# Altium integrated library Silicon Labs Clocks and Oscillators.IntLib: 678 symbols (part 37 of 45)
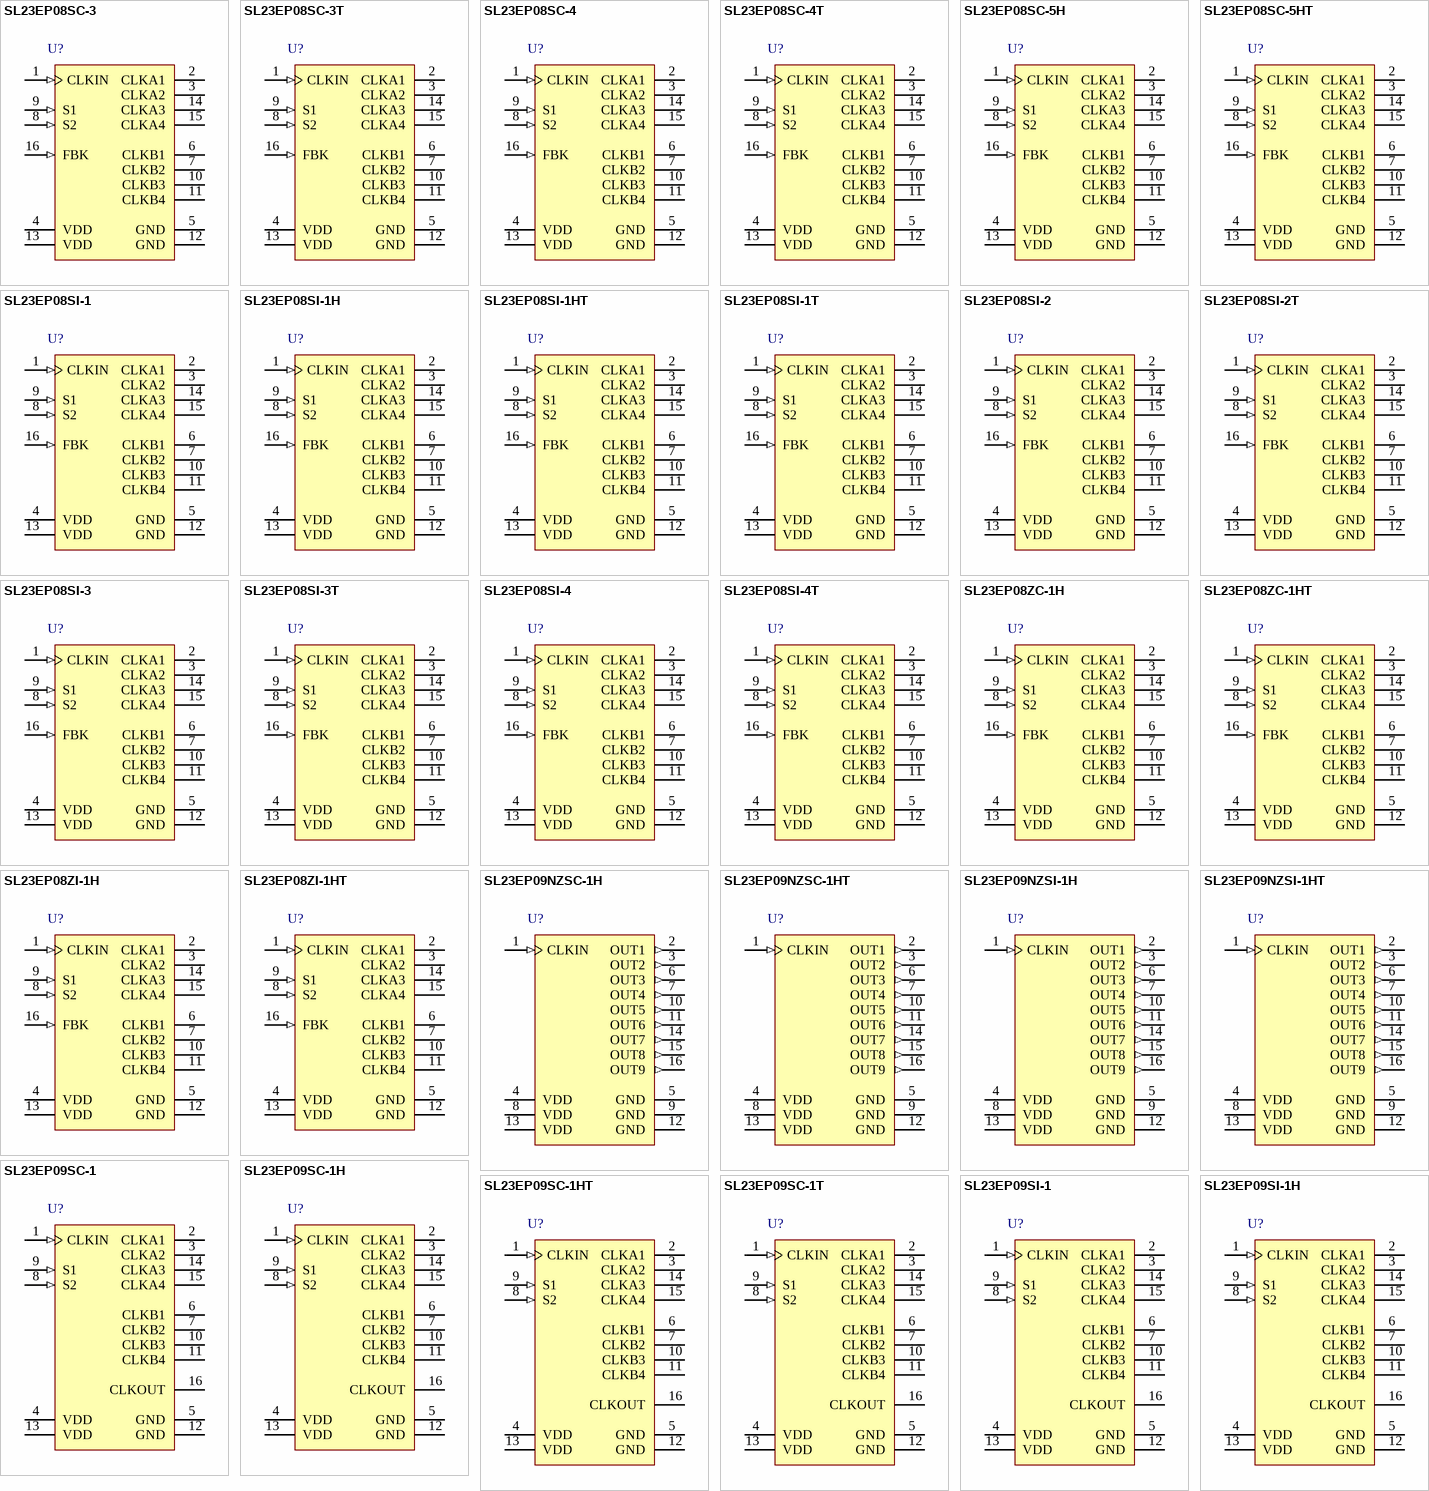
[diagram p80: symbols SL23EP08SC-3 to SL23EP09SI-1H]

## SL23EP08SI-1T
designator U?
Low Jitter and Skew Zero Delay Buffer (ZDB), 10 to 220 MHz, -40 to 85 degC, 16-pin SOIC, Tape and Reel; Manufacturer: Silicon Labs; PartNumber: SL23EP08SI-1T; Output Format: LVCMOS; Sub-Family: Clock Buffers; DatasheetVersion: Rev. 1.0; PackageReference: SOIC-16; PackageDescription: 16-Pin Small-Outline Integrated Circuit, Body 9.9 x 3.9 mm, Pitch 1.27 mm; Supplier 1: Digi-Key; Supplier Part Number 1: SL23EP08SI-1T-ND; Supplier 2: Mouser; Supplier Part Number 2: 634-SL23EP08SI-1T; Frequency (MHz): 10 to 220; Packing: Tape and Reel; Mounting Technology: Surface Mount; ComponentLink1Description: Manufacturer URL; ComponentLink1URL: http://www.silabs.com/; ComponentLink2Description: Datasheet; ComponentLink2URL: http://www.silabs.com/Support%20Documents/TechnicalDocs/SL23EP08.pdf; ComponentLink3Description: Package Specification; ComponentLink3URL: http://www.silabs.com/Support%20Documents/TechnicalDocs/SL2309.pdf
footprint SLAB-SOIC-16_N (SOIC, 16-Leads, Body 10x4mm, Pitch 1.27mm, IPC Medium Density)
footprint SLAB-SOIC-16_L (SOIC, 16-Leads, Body 10x4mm, Pitch 1.27mm, IPC High Density)
footprint SLAB-SOIC-16_M (SOIC, 16-Leads, Body 10x4mm, Pitch 1.27mm, IPC Low Density)
pins: 1 CLKIN (in) "Reference Frequency Clock Input. 5V tolerant input. Weak pull-down (250k ohm)", 2 CLKA1 (hiz) "Buffered Clock Output, Bank A. Weak pull-down (250k ohm).", 3 CLKA2 (hiz) "Buffered Clock Output, Bank A. Weak pull-down (250k ohm).", 4 VDD (power) "3.3V or 2.5V Power Supply.", 5 GND (power) "Power Ground.", 6 CLKB1 (hiz) "Buffered Clock Output, Bank B. Weak pull-down (250k ohm).", 7 CLKB2 (hiz) "Buffered Clock Output, Bank B. Weak pull-down (250k ohm).", 8 S2 (in) "Select Input, select pin S2. Weak pull-up (250k ohm).", 9 S1 (in) "Select Input, select pin S1. Weak pull-up (250k ohm).", 10 CLKB3 (hiz) "Buffered Clock Output, Bank B. Weak pull-down (250k ohm).", 11 CLKB4 (hiz) "Buffered Clock Output, Bank B. Weak pull-down (250k ohm).", 12 GND (power) "Power Ground.", 13 VDD (power) "3.3V or 2.5V Power Supply.", 14 CLKA3 (hiz) "Buffered Clock Output, Bank A. Weak pull-down (250k ohm).", 15 CLKA4 (hiz) "Buffered Clock Output, Bank A. Weak pull-down (250k ohm).", 16 FBK (in) "PLL Feedback input."

## SL23EP08SI-2
designator U?
Low Jitter and Skew Zero Delay Buffer (ZDB), 10 to 220 MHz, -40 to 85 degC, 16-pin SOIC, Tube; Manufacturer: Silicon Labs; PartNumber: SL23EP08SI-2; Output Format: LVCMOS; Sub-Family: Clock Buffers; DatasheetVersion: Rev. 1.0; PackageReference: SOIC-16; PackageDescription: 16-Pin Small-Outline Integrated Circuit, Body 9.9 x 3.9 mm, Pitch 1.27 mm; Frequency (MHz): 10 to 220; Packing: Tube; Mounting Technology: Surface Mount; ComponentLink1Description: Manufacturer URL; ComponentLink1URL: http://www.silabs.com/; ComponentLink2Description: Datasheet; ComponentLink2URL: http://www.silabs.com/Support%20Documents/TechnicalDocs/SL23EP08.pdf; ComponentLink3Description: Package Specification; ComponentLink3URL: http://www.silabs.com/Support%20Documents/TechnicalDocs/SL2309.pdf
footprint SLAB-SOIC-16_N (SOIC, 16-Leads, Body 10x4mm, Pitch 1.27mm, IPC Medium Density)
footprint SLAB-SOIC-16_L (SOIC, 16-Leads, Body 10x4mm, Pitch 1.27mm, IPC High Density)
footprint SLAB-SOIC-16_M (SOIC, 16-Leads, Body 10x4mm, Pitch 1.27mm, IPC Low Density)
pins: 1 CLKIN (in) "Reference Frequency Clock Input. 5V tolerant input. Weak pull-down (250k ohm)", 2 CLKA1 (hiz) "Buffered Clock Output, Bank A. Weak pull-down (250k ohm).", 3 CLKA2 (hiz) "Buffered Clock Output, Bank A. Weak pull-down (250k ohm).", 4 VDD (power) "3.3V or 2.5V Power Supply.", 5 GND (power) "Power Ground.", 6 CLKB1 (hiz) "Buffered Clock Output, Bank B. Weak pull-down (250k ohm).", 7 CLKB2 (hiz) "Buffered Clock Output, Bank B. Weak pull-down (250k ohm).", 8 S2 (in) "Select Input, select pin S2. Weak pull-up (250k ohm).", 9 S1 (in) "Select Input, select pin S1. Weak pull-up (250k ohm).", 10 CLKB3 (hiz) "Buffered Clock Output, Bank B. Weak pull-down (250k ohm).", 11 CLKB4 (hiz) "Buffered Clock Output, Bank B. Weak pull-down (250k ohm).", 12 GND (power) "Power Ground.", 13 VDD (power) "3.3V or 2.5V Power Supply.", 14 CLKA3 (hiz) "Buffered Clock Output, Bank A. Weak pull-down (250k ohm).", 15 CLKA4 (hiz) "Buffered Clock Output, Bank A. Weak pull-down (250k ohm).", 16 FBK (in) "PLL Feedback input."

## SL23EP08SI-2T
designator U?
Low Jitter and Skew Zero Delay Buffer (ZDB), 10 to 220 MHz, -40 to 85 degC, 16-pin SOIC, Tape and Reel; Manufacturer: Silicon Labs; PartNumber: SL23EP08SI-2T; Output Format: LVCMOS; Sub-Family: Clock Buffers; DatasheetVersion: Rev. 1.0; PackageReference: SOIC-16; PackageDescription: 16-Pin Small-Outline Integrated Circuit, Body 9.9 x 3.9 mm, Pitch 1.27 mm; Frequency (MHz): 10 to 220; Packing: Tape and Reel; Mounting Technology: Surface Mount; ComponentLink1Description: Manufacturer URL; ComponentLink1URL: http://www.silabs.com/; ComponentLink2Description: Datasheet; ComponentLink2URL: http://www.silabs.com/Support%20Documents/TechnicalDocs/SL23EP08.pdf; ComponentLink3Description: Package Specification; ComponentLink3URL: http://www.silabs.com/Support%20Documents/TechnicalDocs/SL2309.pdf
footprint SLAB-SOIC-16_N (SOIC, 16-Leads, Body 10x4mm, Pitch 1.27mm, IPC Medium Density)
footprint SLAB-SOIC-16_L (SOIC, 16-Leads, Body 10x4mm, Pitch 1.27mm, IPC High Density)
footprint SLAB-SOIC-16_M (SOIC, 16-Leads, Body 10x4mm, Pitch 1.27mm, IPC Low Density)
pins: 1 CLKIN (in) "Reference Frequency Clock Input. 5V tolerant input. Weak pull-down (250k ohm)", 2 CLKA1 (hiz) "Buffered Clock Output, Bank A. Weak pull-down (250k ohm).", 3 CLKA2 (hiz) "Buffered Clock Output, Bank A. Weak pull-down (250k ohm).", 4 VDD (power) "3.3V or 2.5V Power Supply.", 5 GND (power) "Power Ground.", 6 CLKB1 (hiz) "Buffered Clock Output, Bank B. Weak pull-down (250k ohm).", 7 CLKB2 (hiz) "Buffered Clock Output, Bank B. Weak pull-down (250k ohm).", 8 S2 (in) "Select Input, select pin S2. Weak pull-up (250k ohm).", 9 S1 (in) "Select Input, select pin S1. Weak pull-up (250k ohm).", 10 CLKB3 (hiz) "Buffered Clock Output, Bank B. Weak pull-down (250k ohm).", 11 CLKB4 (hiz) "Buffered Clock Output, Bank B. Weak pull-down (250k ohm).", 12 GND (power) "Power Ground.", 13 VDD (power) "3.3V or 2.5V Power Supply.", 14 CLKA3 (hiz) "Buffered Clock Output, Bank A. Weak pull-down (250k ohm).", 15 CLKA4 (hiz) "Buffered Clock Output, Bank A. Weak pull-down (250k ohm).", 16 FBK (in) "PLL Feedback input."

## SL23EP08SI-3
designator U?
Low Jitter and Skew Zero Delay Buffer (ZDB), 10 to 220 MHz, -40 to 85 degC, 16-pin SOIC, Tube; Manufacturer: Silicon Labs; PartNumber: SL23EP08SI-3; Output Format: LVCMOS; Sub-Family: Clock Buffers; DatasheetVersion: Rev. 1.0; PackageReference: SOIC-16; PackageDescription: 16-Pin Small-Outline Integrated Circuit, Body 9.9 x 3.9 mm, Pitch 1.27 mm; Frequency (MHz): 10 to 220; Packing: Tube; Mounting Technology: Surface Mount; ComponentLink1Description: Manufacturer URL; ComponentLink1URL: http://www.silabs.com/; ComponentLink2Description: Datasheet; ComponentLink2URL: http://www.silabs.com/Support%20Documents/TechnicalDocs/SL23EP08.pdf; ComponentLink3Description: Package Specification; ComponentLink3URL: http://www.silabs.com/Support%20Documents/TechnicalDocs/SL2309.pdf
footprint SLAB-SOIC-16_N (SOIC, 16-Leads, Body 10x4mm, Pitch 1.27mm, IPC Medium Density)
footprint SLAB-SOIC-16_L (SOIC, 16-Leads, Body 10x4mm, Pitch 1.27mm, IPC High Density)
footprint SLAB-SOIC-16_M (SOIC, 16-Leads, Body 10x4mm, Pitch 1.27mm, IPC Low Density)
pins: 1 CLKIN (in) "Reference Frequency Clock Input. 5V tolerant input. Weak pull-down (250k ohm)", 2 CLKA1 (hiz) "Buffered Clock Output, Bank A. Weak pull-down (250k ohm).", 3 CLKA2 (hiz) "Buffered Clock Output, Bank A. Weak pull-down (250k ohm).", 4 VDD (power) "3.3V or 2.5V Power Supply.", 5 GND (power) "Power Ground.", 6 CLKB1 (hiz) "Buffered Clock Output, Bank B. Weak pull-down (250k ohm).", 7 CLKB2 (hiz) "Buffered Clock Output, Bank B. Weak pull-down (250k ohm).", 8 S2 (in) "Select Input, select pin S2. Weak pull-up (250k ohm).", 9 S1 (in) "Select Input, select pin S1. Weak pull-up (250k ohm).", 10 CLKB3 (hiz) "Buffered Clock Output, Bank B. Weak pull-down (250k ohm).", 11 CLKB4 (hiz) "Buffered Clock Output, Bank B. Weak pull-down (250k ohm).", 12 GND (power) "Power Ground.", 13 VDD (power) "3.3V or 2.5V Power Supply.", 14 CLKA3 (hiz) "Buffered Clock Output, Bank A. Weak pull-down (250k ohm).", 15 CLKA4 (hiz) "Buffered Clock Output, Bank A. Weak pull-down (250k ohm).", 16 FBK (in) "PLL Feedback input."

## SL23EP08SI-3T
designator U?
Low Jitter and Skew Zero Delay Buffer (ZDB), 10 to 220 MHz, -40 to 85 degC, 16-pin SOIC, Tape and Reel; Manufacturer: Silicon Labs; PartNumber: SL23EP08SI-3T; Output Format: LVCMOS; Sub-Family: Clock Buffers; DatasheetVersion: Rev. 1.0; PackageReference: SOIC-16; PackageDescription: 16-Pin Small-Outline Integrated Circuit, Body 9.9 x 3.9 mm, Pitch 1.27 mm; Frequency (MHz): 10 to 220; Packing: Tape and Reel; Mounting Technology: Surface Mount; ComponentLink1Description: Manufacturer URL; ComponentLink1URL: http://www.silabs.com/; ComponentLink2Description: Datasheet; ComponentLink2URL: http://www.silabs.com/Support%20Documents/TechnicalDocs/SL23EP08.pdf; ComponentLink3Description: Package Specification; ComponentLink3URL: http://www.silabs.com/Support%20Documents/TechnicalDocs/SL2309.pdf
footprint SLAB-SOIC-16_N (SOIC, 16-Leads, Body 10x4mm, Pitch 1.27mm, IPC Medium Density)
footprint SLAB-SOIC-16_L (SOIC, 16-Leads, Body 10x4mm, Pitch 1.27mm, IPC High Density)
footprint SLAB-SOIC-16_M (SOIC, 16-Leads, Body 10x4mm, Pitch 1.27mm, IPC Low Density)
pins: 1 CLKIN (in) "Reference Frequency Clock Input. 5V tolerant input. Weak pull-down (250k ohm)", 2 CLKA1 (hiz) "Buffered Clock Output, Bank A. Weak pull-down (250k ohm).", 3 CLKA2 (hiz) "Buffered Clock Output, Bank A. Weak pull-down (250k ohm).", 4 VDD (power) "3.3V or 2.5V Power Supply.", 5 GND (power) "Power Ground.", 6 CLKB1 (hiz) "Buffered Clock Output, Bank B. Weak pull-down (250k ohm).", 7 CLKB2 (hiz) "Buffered Clock Output, Bank B. Weak pull-down (250k ohm).", 8 S2 (in) "Select Input, select pin S2. Weak pull-up (250k ohm).", 9 S1 (in) "Select Input, select pin S1. Weak pull-up (250k ohm).", 10 CLKB3 (hiz) "Buffered Clock Output, Bank B. Weak pull-down (250k ohm).", 11 CLKB4 (hiz) "Buffered Clock Output, Bank B. Weak pull-down (250k ohm).", 12 GND (power) "Power Ground.", 13 VDD (power) "3.3V or 2.5V Power Supply.", 14 CLKA3 (hiz) "Buffered Clock Output, Bank A. Weak pull-down (250k ohm).", 15 CLKA4 (hiz) "Buffered Clock Output, Bank A. Weak pull-down (250k ohm).", 16 FBK (in) "PLL Feedback input."

## SL23EP08SI-4
designator U?
Low Jitter and Skew Zero Delay Buffer (ZDB), 10 to 220 MHz, -40 to 85 degC, 16-pin SOIC, Tube; Manufacturer: Silicon Labs; PartNumber: SL23EP08SI-4; Output Format: LVCMOS; Sub-Family: Clock Buffers; DatasheetVersion: Rev. 1.0; PackageReference: SOIC-16; PackageDescription: 16-Pin Small-Outline Integrated Circuit, Body 9.9 x 3.9 mm, Pitch 1.27 mm; Supplier 1: Digi-Key; Supplier Part Number 1: SL23EP08SI-4-ND; Supplier 2: Mouser; Supplier Part Number 2: 634-SL23EP08SI-4; Frequency (MHz): 10 to 220; Packing: Tube; Mounting Technology: Surface Mount; ComponentLink1Description: Manufacturer URL; ComponentLink1URL: http://www.silabs.com/; ComponentLink2Description: Datasheet; ComponentLink2URL: http://www.silabs.com/Support%20Documents/TechnicalDocs/SL23EP08.pdf; ComponentLink3Description: Package Specification; ComponentLink3URL: http://www.silabs.com/Support%20Documents/TechnicalDocs/SL2309.pdf
footprint SLAB-SOIC-16_N (SOIC, 16-Leads, Body 10x4mm, Pitch 1.27mm, IPC Medium Density)
footprint SLAB-SOIC-16_L (SOIC, 16-Leads, Body 10x4mm, Pitch 1.27mm, IPC High Density)
footprint SLAB-SOIC-16_M (SOIC, 16-Leads, Body 10x4mm, Pitch 1.27mm, IPC Low Density)
pins: 1 CLKIN (in) "Reference Frequency Clock Input. 5V tolerant input. Weak pull-down (250k ohm)", 2 CLKA1 (hiz) "Buffered Clock Output, Bank A. Weak pull-down (250k ohm).", 3 CLKA2 (hiz) "Buffered Clock Output, Bank A. Weak pull-down (250k ohm).", 4 VDD (power) "3.3V or 2.5V Power Supply.", 5 GND (power) "Power Ground.", 6 CLKB1 (hiz) "Buffered Clock Output, Bank B. Weak pull-down (250k ohm).", 7 CLKB2 (hiz) "Buffered Clock Output, Bank B. Weak pull-down (250k ohm).", 8 S2 (in) "Select Input, select pin S2. Weak pull-up (250k ohm).", 9 S1 (in) "Select Input, select pin S1. Weak pull-up (250k ohm).", 10 CLKB3 (hiz) "Buffered Clock Output, Bank B. Weak pull-down (250k ohm).", 11 CLKB4 (hiz) "Buffered Clock Output, Bank B. Weak pull-down (250k ohm).", 12 GND (power) "Power Ground.", 13 VDD (power) "3.3V or 2.5V Power Supply.", 14 CLKA3 (hiz) "Buffered Clock Output, Bank A. Weak pull-down (250k ohm).", 15 CLKA4 (hiz) "Buffered Clock Output, Bank A. Weak pull-down (250k ohm).", 16 FBK (in) "PLL Feedback input."

## SL23EP08SI-4T
designator U?
Low Jitter and Skew Zero Delay Buffer (ZDB), 10 to 220 MHz, -40 to 85 degC, 16-pin SOIC, Tape and Reel; Manufacturer: Silicon Labs; PartNumber: SL23EP08SI-4T; Output Format: LVCMOS; Sub-Family: Clock Buffers; DatasheetVersion: Rev. 1.0; PackageReference: SOIC-16; PackageDescription: 16-Pin Small-Outline Integrated Circuit, Body 9.9 x 3.9 mm, Pitch 1.27 mm; Supplier 1: Digi-Key; Supplier Part Number 1: SL23EP08SI-4T-ND; Supplier 2: Mouser; Supplier Part Number 2: 634-SL23EP08SI-4T; Frequency (MHz): 10 to 220; Packing: Tape and Reel; Mounting Technology: Surface Mount; ComponentLink1Description: Manufacturer URL; ComponentLink1URL: http://www.silabs.com/; ComponentLink2Description: Datasheet; ComponentLink2URL: http://www.silabs.com/Support%20Documents/TechnicalDocs/SL23EP08.pdf; ComponentLink3Description: Package Specification; ComponentLink3URL: http://www.silabs.com/Support%20Documents/TechnicalDocs/SL2309.pdf
footprint SLAB-SOIC-16_N (SOIC, 16-Leads, Body 10x4mm, Pitch 1.27mm, IPC Medium Density)
footprint SLAB-SOIC-16_L (SOIC, 16-Leads, Body 10x4mm, Pitch 1.27mm, IPC High Density)
footprint SLAB-SOIC-16_M (SOIC, 16-Leads, Body 10x4mm, Pitch 1.27mm, IPC Low Density)
pins: 1 CLKIN (in) "Reference Frequency Clock Input. 5V tolerant input. Weak pull-down (250k ohm)", 2 CLKA1 (hiz) "Buffered Clock Output, Bank A. Weak pull-down (250k ohm).", 3 CLKA2 (hiz) "Buffered Clock Output, Bank A. Weak pull-down (250k ohm).", 4 VDD (power) "3.3V or 2.5V Power Supply.", 5 GND (power) "Power Ground.", 6 CLKB1 (hiz) "Buffered Clock Output, Bank B. Weak pull-down (250k ohm).", 7 CLKB2 (hiz) "Buffered Clock Output, Bank B. Weak pull-down (250k ohm).", 8 S2 (in) "Select Input, select pin S2. Weak pull-up (250k ohm).", 9 S1 (in) "Select Input, select pin S1. Weak pull-up (250k ohm).", 10 CLKB3 (hiz) "Buffered Clock Output, Bank B. Weak pull-down (250k ohm).", 11 CLKB4 (hiz) "Buffered Clock Output, Bank B. Weak pull-down (250k ohm).", 12 GND (power) "Power Ground.", 13 VDD (power) "3.3V or 2.5V Power Supply.", 14 CLKA3 (hiz) "Buffered Clock Output, Bank A. Weak pull-down (250k ohm).", 15 CLKA4 (hiz) "Buffered Clock Output, Bank A. Weak pull-down (250k ohm).", 16 FBK (in) "PLL Feedback input."

## SL23EP08ZC-1H
designator U?
Low Jitter and Skew Zero Delay Buffer (ZDB), 10 to 220 MHz, 0 to 70 degC, 16-pin SOP, Tube; Manufacturer: Silicon Labs; PartNumber: SL23EP08ZC-1H; Output Format: LVCMOS; Sub-Family: Clock Buffers; DatasheetVersion: Rev. 1.0; PackageReference: TSSOP-16_A; PackageDescription: 16-Pin Thin Shrink Small-Outline Package, Body 5 x 4.4 mm, Pitch 0.65 mm; Supplier 1: Digi-Key; Supplier Part Number 1: SL23EP08ZC-1H-ND; Supplier 2: Mouser; Supplier Part Number 2: 634-SL23EP08ZC-1H; Frequency (MHz): 10 to 220; Packing: Tube; Mounting Technology: Surface Mount; ComponentLink1Description: Manufacturer URL; ComponentLink1URL: http://www.silabs.com/; ComponentLink2Description: Datasheet; ComponentLink2URL: http://www.silabs.com/Support%20Documents/TechnicalDocs/SL23EP08.pdf; ComponentLink3Description: Package Specification; ComponentLink3URL: http://www.silabs.com/Support%20Documents/TechnicalDocs/SL2309.pdf
footprint SLAB-TSSOP-16_A_N (SOP, 16-Leads, Body 5.1x4.5mm, Pitch 0.65mm, IPC Medium Density)
footprint SLAB-TSSOP-16_A_L (SOP, 16-Leads, Body 5.1x4.5mm, Pitch 0.65mm, IPC High Density)
footprint SLAB-TSSOP-16_A_M (SOP, 16-Leads, Body 5.1x4.5mm, Pitch 0.65mm, IPC Low Density)
pins: 1 CLKIN (in) "Reference Frequency Clock Input. 5V tolerant input. Weak pull-down (250k ohm)", 2 CLKA1 (hiz) "Buffered Clock Output, Bank A. Weak pull-down (250k ohm).", 3 CLKA2 (hiz) "Buffered Clock Output, Bank A. Weak pull-down (250k ohm).", 4 VDD (power) "3.3V or 2.5V Power Supply.", 5 GND (power) "Power Ground.", 6 CLKB1 (hiz) "Buffered Clock Output, Bank B. Weak pull-down (250k ohm).", 7 CLKB2 (hiz) "Buffered Clock Output, Bank B. Weak pull-down (250k ohm).", 8 S2 (in) "Select Input, select pin S2. Weak pull-up (250k ohm).", 9 S1 (in) "Select Input, select pin S1. Weak pull-up (250k ohm).", 10 CLKB3 (hiz) "Buffered Clock Output, Bank B. Weak pull-down (250k ohm).", 11 CLKB4 (hiz) "Buffered Clock Output, Bank B. Weak pull-down (250k ohm).", 12 GND (power) "Power Ground.", 13 VDD (power) "3.3V or 2.5V Power Supply.", 14 CLKA3 (hiz) "Buffered Clock Output, Bank A. Weak pull-down (250k ohm).", 15 CLKA4 (hiz) "Buffered Clock Output, Bank A. Weak pull-down (250k ohm).", 16 FBK (in) "PLL Feedback input."

## SL23EP08ZC-1HT
designator U?
Low Jitter and Skew Zero Delay Buffer (ZDB), 10 to 220 MHz, 0 to 70 degC, 16-pin SOP, Tape and Reel; Manufacturer: Silicon Labs; PartNumber: SL23EP08ZC-1HT; Output Format: LVCMOS; Sub-Family: Clock Buffers; DatasheetVersion: Rev. 1.0; PackageReference: TSSOP-16_A; PackageDescription: 16-Pin Thin Shrink Small-Outline Package, Body 5 x 4.4 mm, Pitch 0.65 mm; Supplier 1: Digi-Key; Supplier Part Number 1: SL23EP08ZC-1HT-ND; Supplier 2: Mouser; Supplier Part Number 2: 634-SL23EP08ZC-1HT; Frequency (MHz): 10 to 220; Packing: Tape and Reel; Mounting Technology: Surface Mount; ComponentLink1Description: Manufacturer URL; ComponentLink1URL: http://www.silabs.com/; ComponentLink2Description: Datasheet; ComponentLink2URL: http://www.silabs.com/Support%20Documents/TechnicalDocs/SL23EP08.pdf; ComponentLink3Description: Package Specification; ComponentLink3URL: http://www.silabs.com/Support%20Documents/TechnicalDocs/SL2309.pdf
footprint SLAB-TSSOP-16_A_N (SOP, 16-Leads, Body 5.1x4.5mm, Pitch 0.65mm, IPC Medium Density)
footprint SLAB-TSSOP-16_A_L (SOP, 16-Leads, Body 5.1x4.5mm, Pitch 0.65mm, IPC High Density)
footprint SLAB-TSSOP-16_A_M (SOP, 16-Leads, Body 5.1x4.5mm, Pitch 0.65mm, IPC Low Density)
pins: 1 CLKIN (in) "Reference Frequency Clock Input. 5V tolerant input. Weak pull-down (250k ohm)", 2 CLKA1 (hiz) "Buffered Clock Output, Bank A. Weak pull-down (250k ohm).", 3 CLKA2 (hiz) "Buffered Clock Output, Bank A. Weak pull-down (250k ohm).", 4 VDD (power) "3.3V or 2.5V Power Supply.", 5 GND (power) "Power Ground.", 6 CLKB1 (hiz) "Buffered Clock Output, Bank B. Weak pull-down (250k ohm).", 7 CLKB2 (hiz) "Buffered Clock Output, Bank B. Weak pull-down (250k ohm).", 8 S2 (in) "Select Input, select pin S2. Weak pull-up (250k ohm).", 9 S1 (in) "Select Input, select pin S1. Weak pull-up (250k ohm).", 10 CLKB3 (hiz) "Buffered Clock Output, Bank B. Weak pull-down (250k ohm).", 11 CLKB4 (hiz) "Buffered Clock Output, Bank B. Weak pull-down (250k ohm).", 12 GND (power) "Power Ground.", 13 VDD (power) "3.3V or 2.5V Power Supply.", 14 CLKA3 (hiz) "Buffered Clock Output, Bank A. Weak pull-down (250k ohm).", 15 CLKA4 (hiz) "Buffered Clock Output, Bank A. Weak pull-down (250k ohm).", 16 FBK (in) "PLL Feedback input."

## SL23EP08ZI-1H
designator U?
Low Jitter and Skew Zero Delay Buffer (ZDB), 10 to 220 MHz, -40 to 85 degC, 16-pin SOP, Tube; Manufacturer: Silicon Labs; PartNumber: SL23EP08ZI-1H; Output Format: LVCMOS; Sub-Family: Clock Buffers; DatasheetVersion: Rev. 1.0; PackageReference: TSSOP-16_A; PackageDescription: 16-Pin Thin Shrink Small-Outline Package, Body 5 x 4.4 mm, Pitch 0.65 mm; Frequency (MHz): 10 to 220; Packing: Tube; Mounting Technology: Surface Mount; ComponentLink1Description: Manufacturer URL; ComponentLink1URL: http://www.silabs.com/; ComponentLink2Description: Datasheet; ComponentLink2URL: http://www.silabs.com/Support%20Documents/TechnicalDocs/SL23EP08.pdf; ComponentLink3Description: Package Specification; ComponentLink3URL: http://www.silabs.com/Support%20Documents/TechnicalDocs/SL2309.pdf
footprint SLAB-TSSOP-16_A_N (SOP, 16-Leads, Body 5.1x4.5mm, Pitch 0.65mm, IPC Medium Density)
footprint SLAB-TSSOP-16_A_L (SOP, 16-Leads, Body 5.1x4.5mm, Pitch 0.65mm, IPC High Density)
footprint SLAB-TSSOP-16_A_M (SOP, 16-Leads, Body 5.1x4.5mm, Pitch 0.65mm, IPC Low Density)
pins: 1 CLKIN (in) "Reference Frequency Clock Input. 5V tolerant input. Weak pull-down (250k ohm)", 2 CLKA1 (hiz) "Buffered Clock Output, Bank A. Weak pull-down (250k ohm).", 3 CLKA2 (hiz) "Buffered Clock Output, Bank A. Weak pull-down (250k ohm).", 4 VDD (power) "3.3V or 2.5V Power Supply.", 5 GND (power) "Power Ground.", 6 CLKB1 (hiz) "Buffered Clock Output, Bank B. Weak pull-down (250k ohm).", 7 CLKB2 (hiz) "Buffered Clock Output, Bank B. Weak pull-down (250k ohm).", 8 S2 (in) "Select Input, select pin S2. Weak pull-up (250k ohm).", 9 S1 (in) "Select Input, select pin S1. Weak pull-up (250k ohm).", 10 CLKB3 (hiz) "Buffered Clock Output, Bank B. Weak pull-down (250k ohm).", 11 CLKB4 (hiz) "Buffered Clock Output, Bank B. Weak pull-down (250k ohm).", 12 GND (power) "Power Ground.", 13 VDD (power) "3.3V or 2.5V Power Supply.", 14 CLKA3 (hiz) "Buffered Clock Output, Bank A. Weak pull-down (250k ohm).", 15 CLKA4 (hiz) "Buffered Clock Output, Bank A. Weak pull-down (250k ohm).", 16 FBK (in) "PLL Feedback input."

## SL23EP08ZI-1HT
designator U?
Low Jitter and Skew Zero Delay Buffer (ZDB), 10 to 220 MHz, -40 to 85 degC, 16-pin SOP, Tape and Reel; Manufacturer: Silicon Labs; PartNumber: SL23EP08ZI-1HT; Output Format: LVCMOS; Sub-Family: Clock Buffers; DatasheetVersion: Rev. 1.0; PackageReference: TSSOP-16_A; PackageDescription: 16-Pin Thin Shrink Small-Outline Package, Body 5 x 4.4 mm, Pitch 0.65 mm; Frequency (MHz): 10 to 220; Packing: Tape and Reel; Mounting Technology: Surface Mount; ComponentLink1Description: Manufacturer URL; ComponentLink1URL: http://www.silabs.com/; ComponentLink2Description: Datasheet; ComponentLink2URL: http://www.silabs.com/Support%20Documents/TechnicalDocs/SL23EP08.pdf; ComponentLink3Description: Package Specification; ComponentLink3URL: http://www.silabs.com/Support%20Documents/TechnicalDocs/SL2309.pdf
footprint SLAB-TSSOP-16_A_N (SOP, 16-Leads, Body 5.1x4.5mm, Pitch 0.65mm, IPC Medium Density)
footprint SLAB-TSSOP-16_A_L (SOP, 16-Leads, Body 5.1x4.5mm, Pitch 0.65mm, IPC High Density)
footprint SLAB-TSSOP-16_A_M (SOP, 16-Leads, Body 5.1x4.5mm, Pitch 0.65mm, IPC Low Density)
pins: 1 CLKIN (in) "Reference Frequency Clock Input. 5V tolerant input. Weak pull-down (250k ohm)", 2 CLKA1 (hiz) "Buffered Clock Output, Bank A. Weak pull-down (250k ohm).", 3 CLKA2 (hiz) "Buffered Clock Output, Bank A. Weak pull-down (250k ohm).", 4 VDD (power) "3.3V or 2.5V Power Supply.", 5 GND (power) "Power Ground.", 6 CLKB1 (hiz) "Buffered Clock Output, Bank B. Weak pull-down (250k ohm).", 7 CLKB2 (hiz) "Buffered Clock Output, Bank B. Weak pull-down (250k ohm).", 8 S2 (in) "Select Input, select pin S2. Weak pull-up (250k ohm).", 9 S1 (in) "Select Input, select pin S1. Weak pull-up (250k ohm).", 10 CLKB3 (hiz) "Buffered Clock Output, Bank B. Weak pull-down (250k ohm).", 11 CLKB4 (hiz) "Buffered Clock Output, Bank B. Weak pull-down (250k ohm).", 12 GND (power) "Power Ground.", 13 VDD (power) "3.3V or 2.5V Power Supply.", 14 CLKA3 (hiz) "Buffered Clock Output, Bank A. Weak pull-down (250k ohm).", 15 CLKA4 (hiz) "Buffered Clock Output, Bank A. Weak pull-down (250k ohm).", 16 FBK (in) "PLL Feedback input."

## SL23EP09NZSC-1H
designator U?
Low Jitter and Skew Clock Buffer, DC to 220 MHz, 0 to 70 degC, 16-pin SOIC, Tube; Manufacturer: Silicon Labs; PartNumber: SL23EP09NZSC-1H; Output Format: LVCMOS; Sub-Family: Clock Buffers; DatasheetVersion: Rev 2.2; PackageReference: SOIC-16; PackageDescription: 16-Pin Small-Outline Integrated Circuit, Body 9.9 x 3.9 mm, Pitch 1.27 mm; Supplier 1: Digi-Key; Supplier Part Number 1: SL23EP09NZSC-1H-ND; Supplier 2: Mouser; Supplier Part Number 2: 634-SL23EP09NZSC-1H; Frequency (MHz): DC to 220 MHz; Packing: Tube; Mounting Technology: Surface Mount; ComponentLink1Description: Manufacturer URL; ComponentLink1URL: http://www.silabs.com/; ComponentLink2Description: Datasheet; ComponentLink2URL: http://www.silabs.com/Support%20Documents/TechnicalDocs/SL23EP09NZ.pdf; ComponentLink3Description: Package Specification; ComponentLink3URL: http://www.silabs.com/Support%20Documents/TechnicalDocs/SL2309.pdf
footprint SLAB-SOIC-16_N (SOIC, 16-Leads, Body 10x4mm, Pitch 1.27mm, IPC Medium Density)
footprint SLAB-SOIC-16_L (SOIC, 16-Leads, Body 10x4mm, Pitch 1.27mm, IPC High Density)
footprint SLAB-SOIC-16_M (SOIC, 16-Leads, Body 10x4mm, Pitch 1.27mm, IPC Low Density)
pins: 1 CLKIN (in) "Input Reference Clock", 2 OUT1 (out) "Buffered Clock Output-1", 3 OUT2 (out) "Buffered Clock Output-2", 4 VDD (power) "3.3V +/-10% Power Supply", 5 GND (power) "Power Ground", 6 OUT3 (out) "Buffered Clock Output-3", 7 OUT4 (out) "Buffered Clock Output-4", 8 VDD (power) "3.3V and 2.5V +/-10% Power Supply", 9 GND (power) "Power Ground", 10 OUT5 (out) "Buffered Clock Output-5", 11 OUT6 (out) "Buffered Clock Output-6", 12 GND (power) "Power Ground", 13 VDD (power) "3.3V and 2.5V +/-10% Power Supply", 14 OUT7 (out) "Buffered Clock Output-7", 15 OUT8 (out) "Buffered Clock Output-8", 16 OUT9 (out) "Buffered Clock Output-9"

## SL23EP09NZSC-1HT
designator U?
Low Jitter and Skew Clock Buffer, DC to 220 MHz, 0 to 70 degC, 16-pin SOIC, Tape and Reel; Manufacturer: Silicon Labs; PartNumber: SL23EP09NZSC-1HT; Output Format: LVCMOS; Sub-Family: Clock Buffers; DatasheetVersion: Rev 2.2; PackageReference: SOIC-16; PackageDescription: 16-Pin Small-Outline Integrated Circuit, Body 9.9 x 3.9 mm, Pitch 1.27 mm; Supplier 1: Digi-Key; Supplier Part Number 1: SL23EP09NZSC-1HT-ND; Supplier 2: Mouser; Supplier Part Number 2: 634-SL23EP09NZSC-1HT; Frequency (MHz): DC to 220 MHz; Packing: Tape and Reel; Mounting Technology: Surface Mount; ComponentLink1Description: Manufacturer URL; ComponentLink1URL: http://www.silabs.com/; ComponentLink2Description: Datasheet; ComponentLink2URL: http://www.silabs.com/Support%20Documents/TechnicalDocs/SL23EP09NZ.pdf; ComponentLink3Description: Package Specification; ComponentLink3URL: http://www.silabs.com/Support%20Documents/TechnicalDocs/SL2309.pdf
footprint SLAB-SOIC-16_N (SOIC, 16-Leads, Body 10x4mm, Pitch 1.27mm, IPC Medium Density)
footprint SLAB-SOIC-16_L (SOIC, 16-Leads, Body 10x4mm, Pitch 1.27mm, IPC High Density)
footprint SLAB-SOIC-16_M (SOIC, 16-Leads, Body 10x4mm, Pitch 1.27mm, IPC Low Density)
pins: 1 CLKIN (in) "Input Reference Clock", 2 OUT1 (out) "Buffered Clock Output-1", 3 OUT2 (out) "Buffered Clock Output-2", 4 VDD (power) "3.3V +/-10% Power Supply", 5 GND (power) "Power Ground", 6 OUT3 (out) "Buffered Clock Output-3", 7 OUT4 (out) "Buffered Clock Output-4", 8 VDD (power) "3.3V and 2.5V +/-10% Power Supply", 9 GND (power) "Power Ground", 10 OUT5 (out) "Buffered Clock Output-5", 11 OUT6 (out) "Buffered Clock Output-6", 12 GND (power) "Power Ground", 13 VDD (power) "3.3V and 2.5V +/-10% Power Supply", 14 OUT7 (out) "Buffered Clock Output-7", 15 OUT8 (out) "Buffered Clock Output-8", 16 OUT9 (out) "Buffered Clock Output-9"

## SL23EP09NZSI-1H
designator U?
Low Jitter and Skew Clock Buffer, DC to 220 MHz, -40 to 85 degC, 16-pin SOIC, Tube; Manufacturer: Silicon Labs; PartNumber: SL23EP09NZSI-1H; Output Format: LVCMOS; Sub-Family: Clock Buffers; DatasheetVersion: Rev 2.2; PackageReference: SOIC-16; PackageDescription: 16-Pin Small-Outline Integrated Circuit, Body 9.9 x 3.9 mm, Pitch 1.27 mm; Frequency (MHz): DC to 220 MHz; Packing: Tube; Mounting Technology: Surface Mount; ComponentLink1Description: Manufacturer URL; ComponentLink1URL: http://www.silabs.com/; ComponentLink2Description: Datasheet; ComponentLink2URL: http://www.silabs.com/Support%20Documents/TechnicalDocs/SL23EP09NZ.pdf; ComponentLink3Description: Package Specification; ComponentLink3URL: http://www.silabs.com/Support%20Documents/TechnicalDocs/SL2309.pdf
footprint SLAB-SOIC-16_N (SOIC, 16-Leads, Body 10x4mm, Pitch 1.27mm, IPC Medium Density)
footprint SLAB-SOIC-16_L (SOIC, 16-Leads, Body 10x4mm, Pitch 1.27mm, IPC High Density)
footprint SLAB-SOIC-16_M (SOIC, 16-Leads, Body 10x4mm, Pitch 1.27mm, IPC Low Density)
pins: 1 CLKIN (in) "Input Reference Clock", 2 OUT1 (out) "Buffered Clock Output-1", 3 OUT2 (out) "Buffered Clock Output-2", 4 VDD (power) "3.3V +/-10% Power Supply", 5 GND (power) "Power Ground", 6 OUT3 (out) "Buffered Clock Output-3", 7 OUT4 (out) "Buffered Clock Output-4", 8 VDD (power) "3.3V and 2.5V +/-10% Power Supply", 9 GND (power) "Power Ground", 10 OUT5 (out) "Buffered Clock Output-5", 11 OUT6 (out) "Buffered Clock Output-6", 12 GND (power) "Power Ground", 13 VDD (power) "3.3V and 2.5V +/-10% Power Supply", 14 OUT7 (out) "Buffered Clock Output-7", 15 OUT8 (out) "Buffered Clock Output-8", 16 OUT9 (out) "Buffered Clock Output-9"

## SL23EP09NZSI-1HT
designator U?
Low Jitter and Skew Clock Buffer, DC to 220 MHz, -40 to 85 degC, 16-pin SOIC, Tape and Reel; Manufacturer: Silicon Labs; PartNumber: SL23EP09NZSI-1HT; Output Format: LVCMOS; Sub-Family: Clock Buffers; DatasheetVersion: Rev 2.2; PackageReference: SOIC-16; PackageDescription: 16-Pin Small-Outline Integrated Circuit, Body 9.9 x 3.9 mm, Pitch 1.27 mm; Frequency (MHz): DC to 220 MHz; Packing: Tape and Reel; Mounting Technology: Surface Mount; ComponentLink1Description: Manufacturer URL; ComponentLink1URL: http://www.silabs.com/; ComponentLink2Description: Datasheet; ComponentLink2URL: http://www.silabs.com/Support%20Documents/TechnicalDocs/SL23EP09NZ.pdf; ComponentLink3Description: Package Specification; ComponentLink3URL: http://www.silabs.com/Support%20Documents/TechnicalDocs/SL2309.pdf
footprint SLAB-SOIC-16_N (SOIC, 16-Leads, Body 10x4mm, Pitch 1.27mm, IPC Medium Density)
footprint SLAB-SOIC-16_L (SOIC, 16-Leads, Body 10x4mm, Pitch 1.27mm, IPC High Density)
footprint SLAB-SOIC-16_M (SOIC, 16-Leads, Body 10x4mm, Pitch 1.27mm, IPC Low Density)
pins: 1 CLKIN (in) "Input Reference Clock", 2 OUT1 (out) "Buffered Clock Output-1", 3 OUT2 (out) "Buffered Clock Output-2", 4 VDD (power) "3.3V +/-10% Power Supply", 5 GND (power) "Power Ground", 6 OUT3 (out) "Buffered Clock Output-3", 7 OUT4 (out) "Buffered Clock Output-4", 8 VDD (power) "3.3V and 2.5V +/-10% Power Supply", 9 GND (power) "Power Ground", 10 OUT5 (out) "Buffered Clock Output-5", 11 OUT6 (out) "Buffered Clock Output-6", 12 GND (power) "Power Ground", 13 VDD (power) "3.3V and 2.5V +/-10% Power Supply", 14 OUT7 (out) "Buffered Clock Output-7", 15 OUT8 (out) "Buffered Clock Output-8", 16 OUT9 (out) "Buffered Clock Output-9"

## SL23EP09SC-1
designator U?
Low Jitter and Skew Zero Delay Buffer (ZDB), 10 to 220 MHz, 0 to 70 degC, 16-pin SOIC, Tube; Manufacturer: Silicon Labs; PartNumber: SL23EP09SC-1; Output Format: LVCMOS; Sub-Family: Clock Buffers; DatasheetVersion: Rev. 2.0; PackageReference: SOIC-16; PackageDescription: 16-Pin Small-Outline Integrated Circuit, Body 9.9 x 3.9 mm, Pitch 1.27 mm; Supplier 1: Digi-Key; Supplier Part Number 1: SL23EP09SC-1-ND; Supplier 2: Mouser; Supplier Part Number 2: 634-SL23EP09SC-1; Frequency (MHz): 10 to 220; Packing: Tube; Mounting Technology: Surface Mount; ComponentLink1Description: Manufacturer URL; ComponentLink1URL: http://www.silabs.com/; ComponentLink2Description: Datasheet; ComponentLink2URL: http://www.silabs.com/Support%20Documents/TechnicalDocs/SL23EP09.pdf; ComponentLink3Description: Package Specification; ComponentLink3URL: http://www.silabs.com/Support%20Documents/TechnicalDocs/SL2309.pdf
footprint SLAB-SOIC-16_N (SOIC, 16-Leads, Body 10x4mm, Pitch 1.27mm, IPC Medium Density)
footprint SLAB-SOIC-16_L (SOIC, 16-Leads, Body 10x4mm, Pitch 1.27mm, IPC High Density)
footprint SLAB-SOIC-16_M (SOIC, 16-Leads, Body 10x4mm, Pitch 1.27mm, IPC Low Density)
pins: 1 CLKIN (in) "Reference Frequency Clock Input. Weak pull-down (250kohm).", 2 CLKA1 (hiz) "Buffered Clock Output, Bank A. Weak pull-down (250kohm).", 3 CLKA2 (hiz) "Buffered Clock Output, Bank A. Weak pull-down (250kohm).", 4 VDD (power), 5 GND (power) "Power Ground.", 6 CLKB1 (hiz) "Buffered Clock Output, Bank B. Weak pull-down (250kohm).", 7 CLKB2 (hiz) "Buffered Clock Output, Bank B. Weak pull-down (250kohm).", 8 S2 (in) "Select Input, select pin S2. Weak pull-up (250kohm).", 9 S1 (in) "Select Input, select pin S1. Weak pull-up (250kohm).", 10 CLKB3 (hiz) "Buffered Clock Output, Bank B. Weak pull-down (250kohm).", 11 CLKB4 (hiz) "Buffered Clock Output, Bank B. Weak pull-down (250kohm).", 12 GND (power) "Power Ground.", 13 VDD (power), 14 CLKA3 (hiz) "Buffered Clock Output, Bank A. Weak pull-down (250kohm).", 15 CLKA4 (hiz) "Buffered Clock Output, Bank A. Weak pull-down (250kohm).", 16 CLKOUT (hiz) "Buffered Clock Output, PLL Internal Feedback Output. Weak pull-down (250kohm)."

## SL23EP09SC-1H
designator U?
Low Jitter and Skew Zero Delay Buffer (ZDB), 10 to 220 MHz, 0 to 70 degC, 16-pin SOIC, Tube; Manufacturer: Silicon Labs; PartNumber: SL23EP09SC-1H; Output Format: LVCMOS; Sub-Family: Clock Buffers; DatasheetVersion: Rev. 2.0; PackageReference: SOIC-16; PackageDescription: 16-Pin Small-Outline Integrated Circuit, Body 9.9 x 3.9 mm, Pitch 1.27 mm; Supplier 1: Digi-Key; Supplier Part Number 1: SL23EP09SC-1H-ND; Supplier 2: Mouser; Supplier Part Number 2: 634-SL23EP09SC-1H; Frequency (MHz): 10 to 220; Packing: Tube; Mounting Technology: Surface Mount; ComponentLink1Description: Manufacturer URL; ComponentLink1URL: http://www.silabs.com/; ComponentLink2Description: Datasheet; ComponentLink2URL: http://www.silabs.com/Support%20Documents/TechnicalDocs/SL23EP09.pdf; ComponentLink3Description: Package Specification; ComponentLink3URL: http://www.silabs.com/Support%20Documents/TechnicalDocs/SL2309.pdf
footprint SLAB-SOIC-16_N (SOIC, 16-Leads, Body 10x4mm, Pitch 1.27mm, IPC Medium Density)
footprint SLAB-SOIC-16_L (SOIC, 16-Leads, Body 10x4mm, Pitch 1.27mm, IPC High Density)
footprint SLAB-SOIC-16_M (SOIC, 16-Leads, Body 10x4mm, Pitch 1.27mm, IPC Low Density)
pins: 1 CLKIN (in) "Reference Frequency Clock Input. Weak pull-down (250kohm).", 2 CLKA1 (hiz) "Buffered Clock Output, Bank A. Weak pull-down (250kohm).", 3 CLKA2 (hiz) "Buffered Clock Output, Bank A. Weak pull-down (250kohm).", 4 VDD (power), 5 GND (power) "Power Ground.", 6 CLKB1 (hiz) "Buffered Clock Output, Bank B. Weak pull-down (250kohm).", 7 CLKB2 (hiz) "Buffered Clock Output, Bank B. Weak pull-down (250kohm).", 8 S2 (in) "Select Input, select pin S2. Weak pull-up (250kohm).", 9 S1 (in) "Select Input, select pin S1. Weak pull-up (250kohm).", 10 CLKB3 (hiz) "Buffered Clock Output, Bank B. Weak pull-down (250kohm).", 11 CLKB4 (hiz) "Buffered Clock Output, Bank B. Weak pull-down (250kohm).", 12 GND (power) "Power Ground.", 13 VDD (power), 14 CLKA3 (hiz) "Buffered Clock Output, Bank A. Weak pull-down (250kohm).", 15 CLKA4 (hiz) "Buffered Clock Output, Bank A. Weak pull-down (250kohm).", 16 CLKOUT (hiz) "Buffered Clock Output, PLL Internal Feedback Output. Weak pull-down (250kohm)."

## SL23EP09SC-1HT
designator U?
Low Jitter and Skew Zero Delay Buffer (ZDB), 10 to 220 MHz, 0 to 70 degC, 16-pin SOIC, Tape and Reel; Manufacturer: Silicon Labs; PartNumber: SL23EP09SC-1HT; Output Format: LVCMOS; Sub-Family: Clock Buffers; DatasheetVersion: Rev. 2.0; PackageReference: SOIC-16; PackageDescription: 16-Pin Small-Outline Integrated Circuit, Body 9.9 x 3.9 mm, Pitch 1.27 mm; Supplier 1: Digi-Key; Supplier Part Number 1: SL23EP09SC-1HT-ND; Supplier 2: Mouser; Supplier Part Number 2: 634-SL23EP09SC-1HT; Frequency (MHz): 10 to 220; Packing: Tape and Reel; Mounting Technology: Surface Mount; ComponentLink1Description: Manufacturer URL; ComponentLink1URL: http://www.silabs.com/; ComponentLink2Description: Datasheet; ComponentLink2URL: http://www.silabs.com/Support%20Documents/TechnicalDocs/SL23EP09.pdf; ComponentLink3Description: Package Specification; ComponentLink3URL: http://www.silabs.com/Support%20Documents/TechnicalDocs/SL2309.pdf
footprint SLAB-SOIC-16_N (SOIC, 16-Leads, Body 10x4mm, Pitch 1.27mm, IPC Medium Density)
footprint SLAB-SOIC-16_L (SOIC, 16-Leads, Body 10x4mm, Pitch 1.27mm, IPC High Density)
footprint SLAB-SOIC-16_M (SOIC, 16-Leads, Body 10x4mm, Pitch 1.27mm, IPC Low Density)
pins: 1 CLKIN (in) "Reference Frequency Clock Input. Weak pull-down (250kohm).", 2 CLKA1 (hiz) "Buffered Clock Output, Bank A. Weak pull-down (250kohm).", 3 CLKA2 (hiz) "Buffered Clock Output, Bank A. Weak pull-down (250kohm).", 4 VDD (power), 5 GND (power) "Power Ground.", 6 CLKB1 (hiz) "Buffered Clock Output, Bank B. Weak pull-down (250kohm).", 7 CLKB2 (hiz) "Buffered Clock Output, Bank B. Weak pull-down (250kohm).", 8 S2 (in) "Select Input, select pin S2. Weak pull-up (250kohm).", 9 S1 (in) "Select Input, select pin S1. Weak pull-up (250kohm).", 10 CLKB3 (hiz) "Buffered Clock Output, Bank B. Weak pull-down (250kohm).", 11 CLKB4 (hiz) "Buffered Clock Output, Bank B. Weak pull-down (250kohm).", 12 GND (power) "Power Ground.", 13 VDD (power), 14 CLKA3 (hiz) "Buffered Clock Output, Bank A. Weak pull-down (250kohm).", 15 CLKA4 (hiz) "Buffered Clock Output, Bank A. Weak pull-down (250kohm).", 16 CLKOUT (hiz) "Buffered Clock Output, PLL Internal Feedback Output. Weak pull-down (250kohm)."

## SL23EP09SC-1T
designator U?
Low Jitter and Skew Zero Delay Buffer (ZDB), 10 to 220 MHz, 0 to 70 degC, 16-pin SOIC, Tape and Reel; Manufacturer: Silicon Labs; PartNumber: SL23EP09SC-1T; Output Format: LVCMOS; Sub-Family: Clock Buffers; DatasheetVersion: Rev. 2.0; PackageReference: SOIC-16; PackageDescription: 16-Pin Small-Outline Integrated Circuit, Body 9.9 x 3.9 mm, Pitch 1.27 mm; Supplier 1: Digi-Key; Supplier Part Number 1: SL23EP09SC-1T-ND; Supplier 2: Mouser; Supplier Part Number 2: 634-SL23EP09SC-1T; Frequency (MHz): 10 to 220; Packing: Tape and Reel; Mounting Technology: Surface Mount; ComponentLink1Description: Manufacturer URL; ComponentLink1URL: http://www.silabs.com/; ComponentLink2Description: Datasheet; ComponentLink2URL: http://www.silabs.com/Support%20Documents/TechnicalDocs/SL23EP09.pdf; ComponentLink3Description: Package Specification; ComponentLink3URL: http://www.silabs.com/Support%20Documents/TechnicalDocs/SL2309.pdf
footprint SLAB-SOIC-16_N (SOIC, 16-Leads, Body 10x4mm, Pitch 1.27mm, IPC Medium Density)
footprint SLAB-SOIC-16_L (SOIC, 16-Leads, Body 10x4mm, Pitch 1.27mm, IPC High Density)
footprint SLAB-SOIC-16_M (SOIC, 16-Leads, Body 10x4mm, Pitch 1.27mm, IPC Low Density)
pins: 1 CLKIN (in) "Reference Frequency Clock Input. Weak pull-down (250kohm).", 2 CLKA1 (hiz) "Buffered Clock Output, Bank A. Weak pull-down (250kohm).", 3 CLKA2 (hiz) "Buffered Clock Output, Bank A. Weak pull-down (250kohm).", 4 VDD (power), 5 GND (power) "Power Ground.", 6 CLKB1 (hiz) "Buffered Clock Output, Bank B. Weak pull-down (250kohm).", 7 CLKB2 (hiz) "Buffered Clock Output, Bank B. Weak pull-down (250kohm).", 8 S2 (in) "Select Input, select pin S2. Weak pull-up (250kohm).", 9 S1 (in) "Select Input, select pin S1. Weak pull-up (250kohm).", 10 CLKB3 (hiz) "Buffered Clock Output, Bank B. Weak pull-down (250kohm).", 11 CLKB4 (hiz) "Buffered Clock Output, Bank B. Weak pull-down (250kohm).", 12 GND (power) "Power Ground.", 13 VDD (power), 14 CLKA3 (hiz) "Buffered Clock Output, Bank A. Weak pull-down (250kohm).", 15 CLKA4 (hiz) "Buffered Clock Output, Bank A. Weak pull-down (250kohm).", 16 CLKOUT (hiz) "Buffered Clock Output, PLL Internal Feedback Output. Weak pull-down (250kohm)."

## SL23EP09SI-1
designator U?
Low Jitter and Skew Zero Delay Buffer (ZDB), 10 to 220 MHz, -40 to 85 degC, 16-pin SOIC, Tube; Manufacturer: Silicon Labs; PartNumber: SL23EP09SI-1; Output Format: LVCMOS; Sub-Family: Clock Buffers; DatasheetVersion: Rev. 2.0; PackageReference: SOIC-16; PackageDescription: 16-Pin Small-Outline Integrated Circuit, Body 9.9 x 3.9 mm, Pitch 1.27 mm; Supplier 1: Digi-Key; Supplier Part Number 1: SL23EP09SI-1-ND; Supplier 2: Mouser; Supplier Part Number 2: 634-SL23EP09SI-1; Frequency (MHz): 10 to 220; Packing: Tube; Mounting Technology: Surface Mount; ComponentLink1Description: Manufacturer URL; ComponentLink1URL: http://www.silabs.com/; ComponentLink2Description: Datasheet; ComponentLink2URL: http://www.silabs.com/Support%20Documents/TechnicalDocs/SL23EP09.pdf; ComponentLink3Description: Package Specification; ComponentLink3URL: http://www.silabs.com/Support%20Documents/TechnicalDocs/SL2309.pdf
footprint SLAB-SOIC-16_N (SOIC, 16-Leads, Body 10x4mm, Pitch 1.27mm, IPC Medium Density)
footprint SLAB-SOIC-16_L (SOIC, 16-Leads, Body 10x4mm, Pitch 1.27mm, IPC High Density)
footprint SLAB-SOIC-16_M (SOIC, 16-Leads, Body 10x4mm, Pitch 1.27mm, IPC Low Density)
pins: 1 CLKIN (in) "Reference Frequency Clock Input. Weak pull-down (250kohm).", 2 CLKA1 (hiz) "Buffered Clock Output, Bank A. Weak pull-down (250kohm).", 3 CLKA2 (hiz) "Buffered Clock Output, Bank A. Weak pull-down (250kohm).", 4 VDD (power), 5 GND (power) "Power Ground.", 6 CLKB1 (hiz) "Buffered Clock Output, Bank B. Weak pull-down (250kohm).", 7 CLKB2 (hiz) "Buffered Clock Output, Bank B. Weak pull-down (250kohm).", 8 S2 (in) "Select Input, select pin S2. Weak pull-up (250kohm).", 9 S1 (in) "Select Input, select pin S1. Weak pull-up (250kohm).", 10 CLKB3 (hiz) "Buffered Clock Output, Bank B. Weak pull-down (250kohm).", 11 CLKB4 (hiz) "Buffered Clock Output, Bank B. Weak pull-down (250kohm).", 12 GND (power) "Power Ground.", 13 VDD (power), 14 CLKA3 (hiz) "Buffered Clock Output, Bank A. Weak pull-down (250kohm).", 15 CLKA4 (hiz) "Buffered Clock Output, Bank A. Weak pull-down (250kohm).", 16 CLKOUT (hiz) "Buffered Clock Output, PLL Internal Feedback Output. Weak pull-down (250kohm)."

## SL23EP09SI-1H
designator U?
Low Jitter and Skew Zero Delay Buffer (ZDB), 10 to 220 MHz, -40 to 85 degC, 16-pin SOIC, Tube; Manufacturer: Silicon Labs; PartNumber: SL23EP09SI-1H; Output Format: LVCMOS; Sub-Family: Clock Buffers; DatasheetVersion: Rev. 2.0; PackageReference: SOIC-16; PackageDescription: 16-Pin Small-Outline Integrated Circuit, Body 9.9 x 3.9 mm, Pitch 1.27 mm; Supplier 1: Digi-Key; Supplier Part Number 1: SL23EP09SI-1H-ND; Supplier 2: Mouser; Supplier Part Number 2: 634-SL23EP09SI-1H; Frequency (MHz): 10 to 220; Packing: Tube; Mounting Technology: Surface Mount; ComponentLink1Description: Manufacturer URL; ComponentLink1URL: http://www.silabs.com/; ComponentLink2Description: Datasheet; ComponentLink2URL: http://www.silabs.com/Support%20Documents/TechnicalDocs/SL23EP09.pdf; ComponentLink3Description: Package Specification; ComponentLink3URL: http://www.silabs.com/Support%20Documents/TechnicalDocs/SL2309.pdf
footprint SLAB-SOIC-16_N (SOIC, 16-Leads, Body 10x4mm, Pitch 1.27mm, IPC Medium Density)
footprint SLAB-SOIC-16_L (SOIC, 16-Leads, Body 10x4mm, Pitch 1.27mm, IPC High Density)
footprint SLAB-SOIC-16_M (SOIC, 16-Leads, Body 10x4mm, Pitch 1.27mm, IPC Low Density)
pins: 1 CLKIN (in) "Reference Frequency Clock Input. Weak pull-down (250kohm).", 2 CLKA1 (hiz) "Buffered Clock Output, Bank A. Weak pull-down (250kohm).", 3 CLKA2 (hiz) "Buffered Clock Output, Bank A. Weak pull-down (250kohm).", 4 VDD (power), 5 GND (power) "Power Ground.", 6 CLKB1 (hiz) "Buffered Clock Output, Bank B. Weak pull-down (250kohm).", 7 CLKB2 (hiz) "Buffered Clock Output, Bank B. Weak pull-down (250kohm).", 8 S2 (in) "Select Input, select pin S2. Weak pull-up (250kohm).", 9 S1 (in) "Select Input, select pin S1. Weak pull-up (250kohm).", 10 CLKB3 (hiz) "Buffered Clock Output, Bank B. Weak pull-down (250kohm).", 11 CLKB4 (hiz) "Buffered Clock Output, Bank B. Weak pull-down (250kohm).", 12 GND (power) "Power Ground.", 13 VDD (power), 14 CLKA3 (hiz) "Buffered Clock Output, Bank A. Weak pull-down (250kohm).", 15 CLKA4 (hiz) "Buffered Clock Output, Bank A. Weak pull-down (250kohm).", 16 CLKOUT (hiz) "Buffered Clock Output, PLL Internal Feedback Output. Weak pull-down (250kohm)."

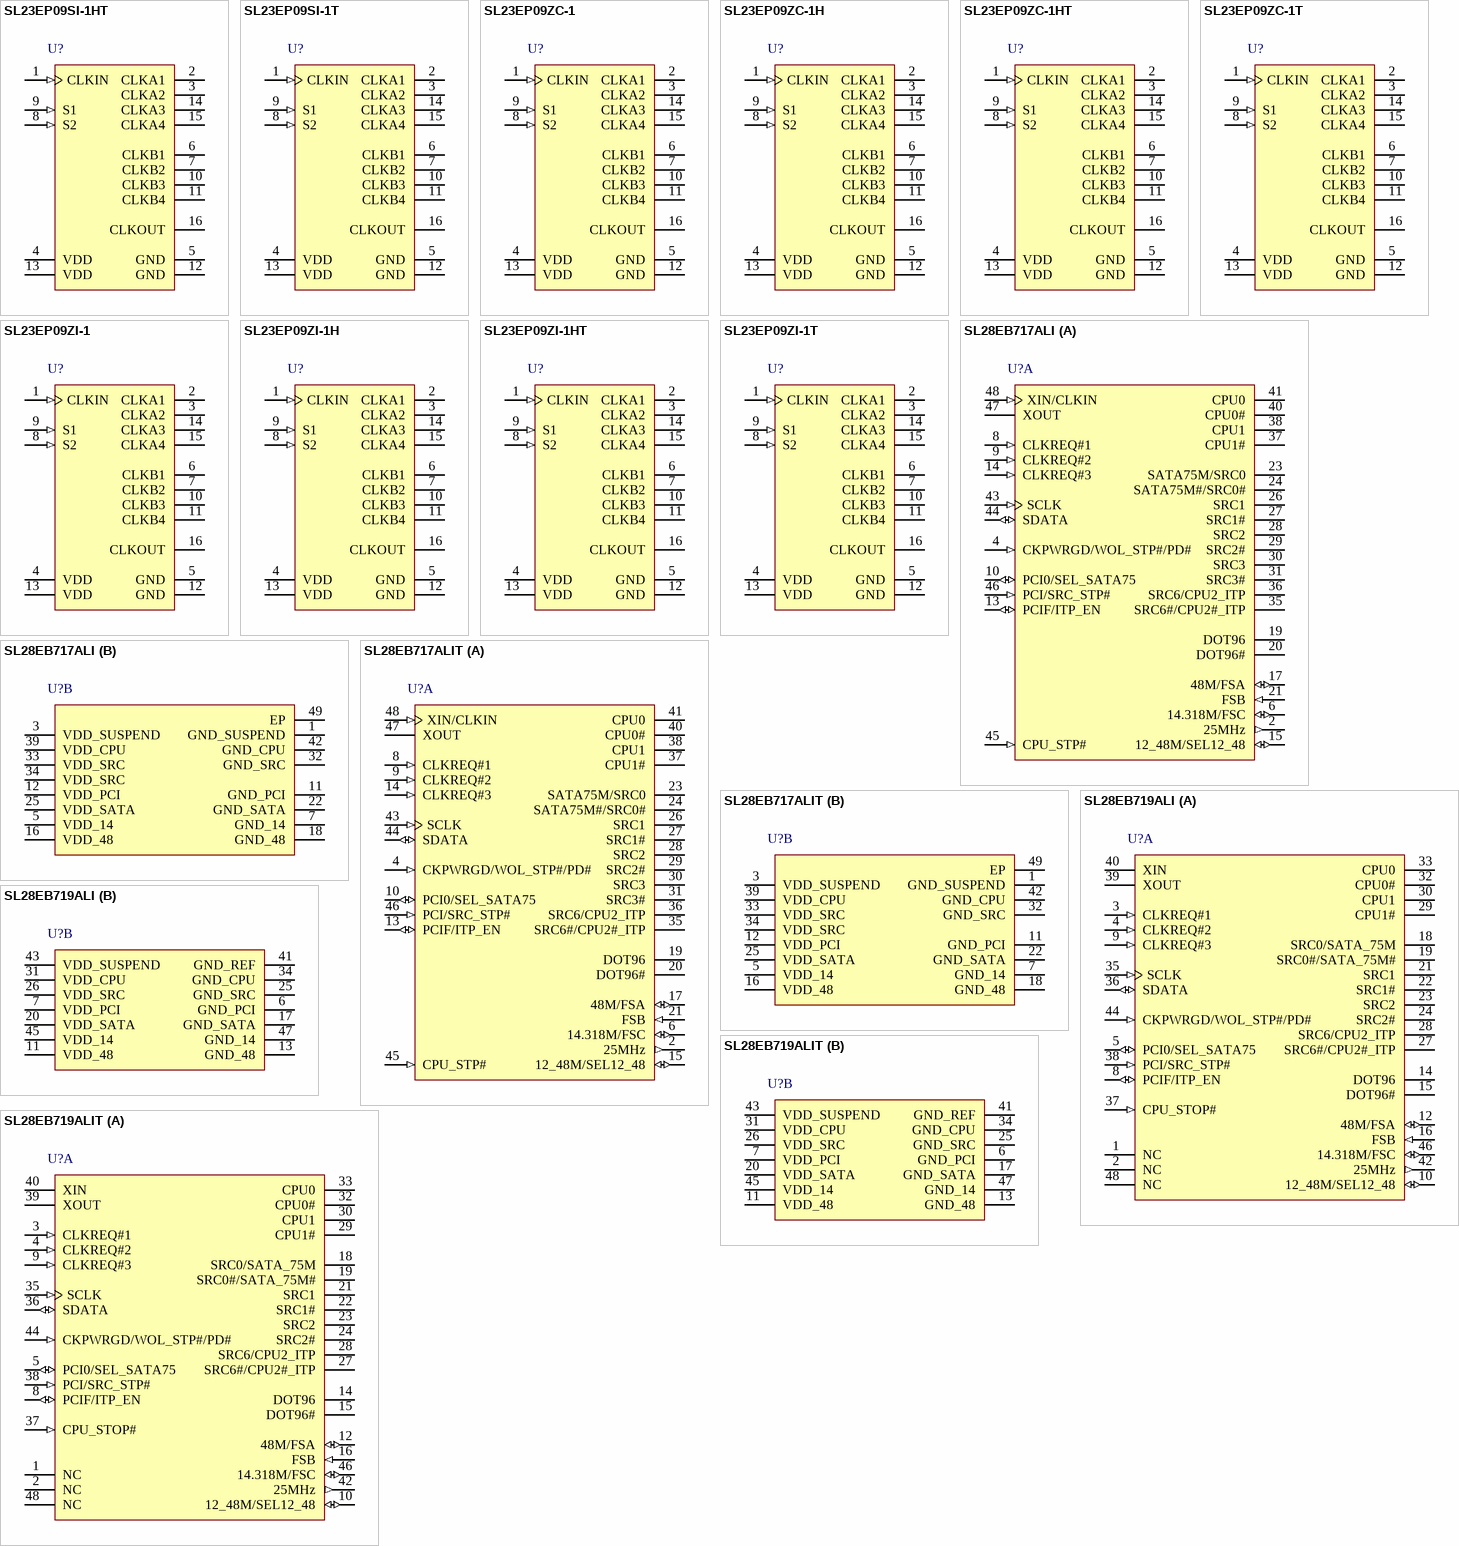
[diagram p36: symbols SL23EP09SI-1HT to SL28EB719ALIT]

## SL23EP09SI-1HT
designator U?
Low Jitter and Skew Zero Delay Buffer (ZDB), 10 to 220 MHz, -40 to 85 degC, 16-pin SOIC, Tape and Reel; Manufacturer: Silicon Labs; PartNumber: SL23EP09SI-1HT; Output Format: LVCMOS; Sub-Family: Clock Buffers; DatasheetVersion: Rev. 2.0; PackageReference: SOIC-16; PackageDescription: 16-Pin Small-Outline Integrated Circuit, Body 9.9 x 3.9 mm, Pitch 1.27 mm; Supplier 1: Digi-Key; Supplier Part Number 1: SL23EP09SI-1HT-ND; Supplier 2: Mouser; Supplier Part Number 2: 634-SL23EP09SI-1HT; Frequency (MHz): 10 to 220; Packing: Tape and Reel; Mounting Technology: Surface Mount; ComponentLink1Description: Manufacturer URL; ComponentLink1URL: http://www.silabs.com/; ComponentLink2Description: Datasheet; ComponentLink2URL: http://www.silabs.com/Support%20Documents/TechnicalDocs/SL23EP09.pdf; ComponentLink3Description: Package Specification; ComponentLink3URL: http://www.silabs.com/Support%20Documents/TechnicalDocs/SL2309.pdf
footprint SLAB-SOIC-16_N (SOIC, 16-Leads, Body 10x4mm, Pitch 1.27mm, IPC Medium Density)
footprint SLAB-SOIC-16_L (SOIC, 16-Leads, Body 10x4mm, Pitch 1.27mm, IPC High Density)
footprint SLAB-SOIC-16_M (SOIC, 16-Leads, Body 10x4mm, Pitch 1.27mm, IPC Low Density)
pins: 1 CLKIN (in) "Reference Frequency Clock Input. Weak pull-down (250kohm).", 2 CLKA1 (hiz) "Buffered Clock Output, Bank A. Weak pull-down (250kohm).", 3 CLKA2 (hiz) "Buffered Clock Output, Bank A. Weak pull-down (250kohm).", 4 VDD (power), 5 GND (power) "Power Ground.", 6 CLKB1 (hiz) "Buffered Clock Output, Bank B. Weak pull-down (250kohm).", 7 CLKB2 (hiz) "Buffered Clock Output, Bank B. Weak pull-down (250kohm).", 8 S2 (in) "Select Input, select pin S2. Weak pull-up (250kohm).", 9 S1 (in) "Select Input, select pin S1. Weak pull-up (250kohm).", 10 CLKB3 (hiz) "Buffered Clock Output, Bank B. Weak pull-down (250kohm).", 11 CLKB4 (hiz) "Buffered Clock Output, Bank B. Weak pull-down (250kohm).", 12 GND (power) "Power Ground.", 13 VDD (power), 14 CLKA3 (hiz) "Buffered Clock Output, Bank A. Weak pull-down (250kohm).", 15 CLKA4 (hiz) "Buffered Clock Output, Bank A. Weak pull-down (250kohm).", 16 CLKOUT (hiz) "Buffered Clock Output, PLL Internal Feedback Output. Weak pull-down (250kohm)."

## SL23EP09SI-1T
designator U?
Low Jitter and Skew Zero Delay Buffer (ZDB), 10 to 220 MHz, -40 to 85 degC, 16-pin SOIC, Tape and Reel; Manufacturer: Silicon Labs; PartNumber: SL23EP09SI-1T; Output Format: LVCMOS; Sub-Family: Clock Buffers; DatasheetVersion: Rev. 2.0; PackageReference: SOIC-16; PackageDescription: 16-Pin Small-Outline Integrated Circuit, Body 9.9 x 3.9 mm, Pitch 1.27 mm; Supplier 1: Digi-Key; Supplier Part Number 1: SL23EP09SI-1T-ND; Supplier 2: Mouser; Supplier Part Number 2: 634-SL23EP09SI-1T; Frequency (MHz): 10 to 220; Packing: Tape and Reel; Mounting Technology: Surface Mount; ComponentLink1Description: Manufacturer URL; ComponentLink1URL: http://www.silabs.com/; ComponentLink2Description: Datasheet; ComponentLink2URL: http://www.silabs.com/Support%20Documents/TechnicalDocs/SL23EP09.pdf; ComponentLink3Description: Package Specification; ComponentLink3URL: http://www.silabs.com/Support%20Documents/TechnicalDocs/SL2309.pdf
footprint SLAB-SOIC-16_N (SOIC, 16-Leads, Body 10x4mm, Pitch 1.27mm, IPC Medium Density)
footprint SLAB-SOIC-16_L (SOIC, 16-Leads, Body 10x4mm, Pitch 1.27mm, IPC High Density)
footprint SLAB-SOIC-16_M (SOIC, 16-Leads, Body 10x4mm, Pitch 1.27mm, IPC Low Density)
pins: 1 CLKIN (in) "Reference Frequency Clock Input. Weak pull-down (250kohm).", 2 CLKA1 (hiz) "Buffered Clock Output, Bank A. Weak pull-down (250kohm).", 3 CLKA2 (hiz) "Buffered Clock Output, Bank A. Weak pull-down (250kohm).", 4 VDD (power), 5 GND (power) "Power Ground.", 6 CLKB1 (hiz) "Buffered Clock Output, Bank B. Weak pull-down (250kohm).", 7 CLKB2 (hiz) "Buffered Clock Output, Bank B. Weak pull-down (250kohm).", 8 S2 (in) "Select Input, select pin S2. Weak pull-up (250kohm).", 9 S1 (in) "Select Input, select pin S1. Weak pull-up (250kohm).", 10 CLKB3 (hiz) "Buffered Clock Output, Bank B. Weak pull-down (250kohm).", 11 CLKB4 (hiz) "Buffered Clock Output, Bank B. Weak pull-down (250kohm).", 12 GND (power) "Power Ground.", 13 VDD (power), 14 CLKA3 (hiz) "Buffered Clock Output, Bank A. Weak pull-down (250kohm).", 15 CLKA4 (hiz) "Buffered Clock Output, Bank A. Weak pull-down (250kohm).", 16 CLKOUT (hiz) "Buffered Clock Output, PLL Internal Feedback Output. Weak pull-down (250kohm)."